# Altium footprint library PcbLib1.PcbLib: 1 footprints
Each footprint in its own frame and in the unit in brackets; x right, y up, seen from the top. Pads: shape width x height; smd on the part's side, far side on the other; paste and mask are expansions set on the pad; w line width, h text height; cw(c..) or ccw(c..) is an arc to the next point about the centre after c.
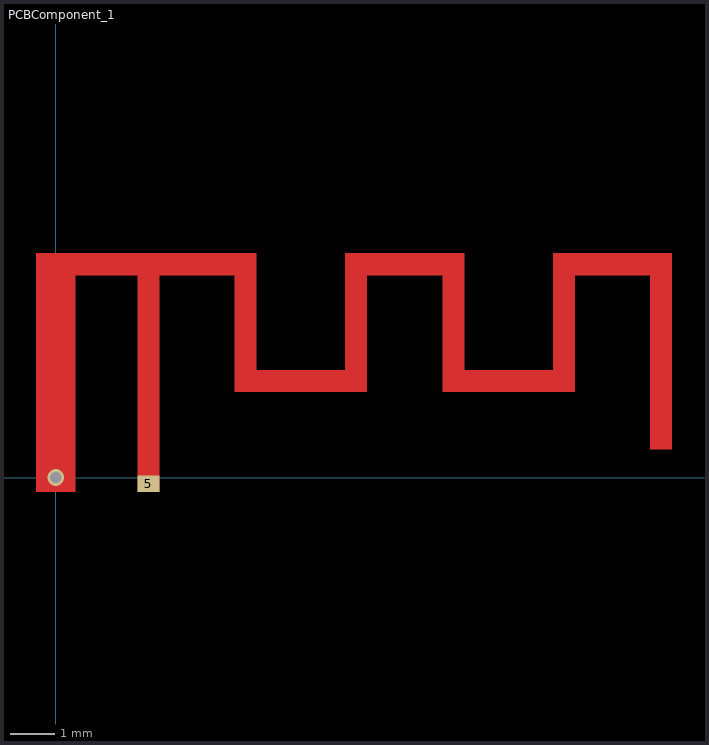
[diagram p0: the footprint, top view; thin cyan lines are the x and y axes]

## PCBComponent_1 [mil]
pads (1):
  rect 19.7x15 smd: 5(82.61,-5.48)
via 0,0 diameter 15 hole 10
Top Layer:
  rectangle: -17.7,-12.9 17.7,180
  rectangle: -17.7,180 178.9,199.7
  rectangle: 178.9,76.1 257.6,95.8
  rectangle: 159.2,76.1 178.9,180
  rectangle: 257.6,76.1 277.3,180
  rectangle: 257.6,180 363.9,199.7
  rectangle: 344.2,76.1 363.9,180
  rectangle: 363.9,76.1 442.6,95.8
  rectangle: 442.6,76.1 462.3,180
  rectangle: 442.6,180 548.9,199.7
  rectangle: 529.2,24.8 548.9,180
  rectangle: 72.8,-12.9 92.5,180